# EAGLE library part 8X2_KS066 (library Displays)
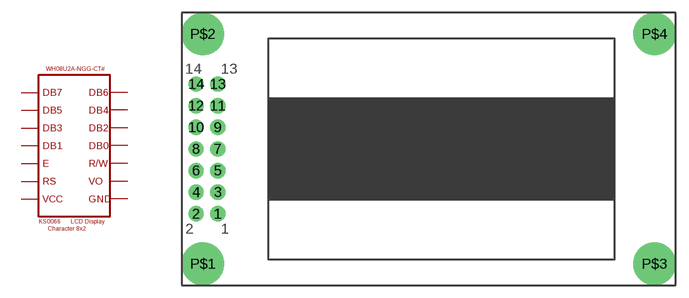
[diagram p1: symbol with the pads of 7X2; footprint 7X2]

Designator prefix -

## 8X2_KS066  [7X2]
1  P$1
2  P$2
3  P$3
4  P$4
5  P$5
6  P$6
7  P$7
8  P$8
9  P$9
10  P$10
11  P$11
12  P$12
13  P$13
14  P$14

## Footprint 7X2 (pad centres in mm)
drill 1 pad 1.8: 1 4.24,8.38; 2 1.7,8.38; 3 4.24,10.92; 4 1.7,10.92; 5 4.24,13.46; 6 1.7,13.46; 7 4.24,16; 8 1.7,16; 9 4.24,18.54; 10 1.7,18.54; 11 4.24,21.08; 12 1.7,21.08; 13 4.24,23.62; 14 1.7,23.62
drill 2.5 pad 5: P$1 2.5,2.5; P$2 2.5,29.5; P$3 55.5,2.5; P$4 55.5,29.5